# Altium footprint library Passives.PcbLib: 2 footprints
Each footprint in its own frame and in the unit in brackets; x right, y up, seen from the top. Pads: shape width x height; smd on the part's side, far side on the other; paste and mask are expansions set on the pad; w line width, h text height; cw(c..) or ccw(c..) is an arc to the next point about the centre after c.
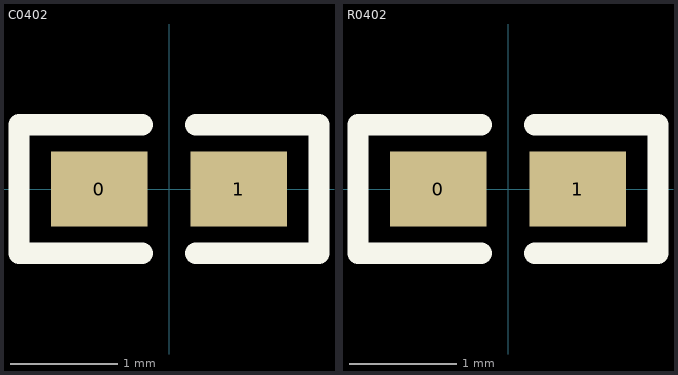
[diagram p0: the footprints below, top view; thin cyan lines are the x and y axes]

## C0402 [mm]
pads (2):
  rect 0.9x0.7 smd: 0(-0.65,0) 1(0.65,0)
Top Overlay:
  lines w0.2: -0.25,-0.6 -1.4,-0.6 -1.4,0.6 -0.25,0.6 ; 0.25,-0.6 1.4,-0.6 1.4,0.6 0.25,0.6
3D body "C_0402_1005Metric.step": height 0.5, standoff 0, extent -0.5,-0.25 0.5,0.25

## R0402 [mm]
pads (2):
  rect 0.9x0.7 smd: 0(-0.65,0) 1(0.65,0)
Top Overlay:
  lines w0.2: -0.25,-0.6 -1.4,-0.6 -1.4,0.6 -0.25,0.6 ; 0.25,-0.6 1.4,-0.6 1.4,0.6 0.25,0.6
3D body "R_0402_1005Metric.step": height 0.35, standoff 0, extent -0.5,-0.25 0.5,0.25